# EAGLE library part TPS7A30XX (library regulator-jqi)
Ultra-low noise adjustable negative regulator, 200mA
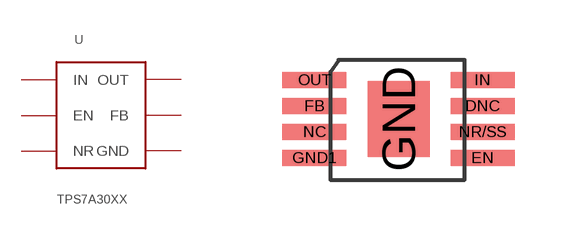
[diagram p2: symbol with the pads of DGN; footprint DGN]

Designator prefix U

## TPS7A30XX  [DGN]
EN  EN
FB  FB
GND  GND
GND1  GND
IN  IN
NR/SS  NR
OUT  OUT

## Footprint DGN (pad centres in mm)
smd 1.6 x 0.4: DNC 4.2,-0.65; EN 4.2,-1.95; FB 0,-0.65; GND1 0,-1.95; IN 4.2,0; NC 0,-1.3; NR/SS 4.2,-1.3; OUT 0,0
smd 1.55 x 1.9: GND 2.1,-0.975